# EAGLE library part IV-6 (library My lib)
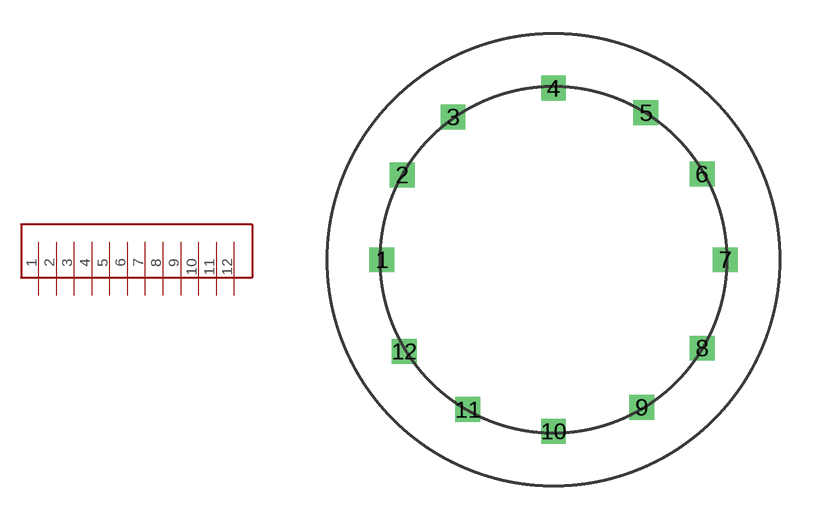
[diagram p2: symbol with the pads of IV-6; footprint IV-6]

Designator prefix -

## IV-6  [IV-6]
1  1
2  2
3  3
4  4
5  5
6  6
7  7
8  8
9  9
10  10
11  11
12  12

## Footprint IV-6 (pad centres in mm)
drill 0.6 square: 1 -7.62,0; 2 -6.715,3.768; 3 -4.464,6.344; 4 0,7.62; 5 4.105,6.533; 6 6.602,3.806; 7 7.62,0; 8 6.606,-3.931; 9 3.927,-6.567; 10 0,-7.62; 11 -3.814,-6.658; 12 -6.628,-4.068